# Altium footprint library PCB - SWITCHES - FP-PW0024A-IPC_C.PcbLib: 1 footprints
Each footprint in its own frame and in the unit in brackets; x right, y up, seen from the top. Pads: shape width x height; smd on the part's side, far side on the other; paste and mask are expansions set on the pad; w line width, h text height; cw(c..) or ccw(c..) is an arc to the next point about the centre after c.
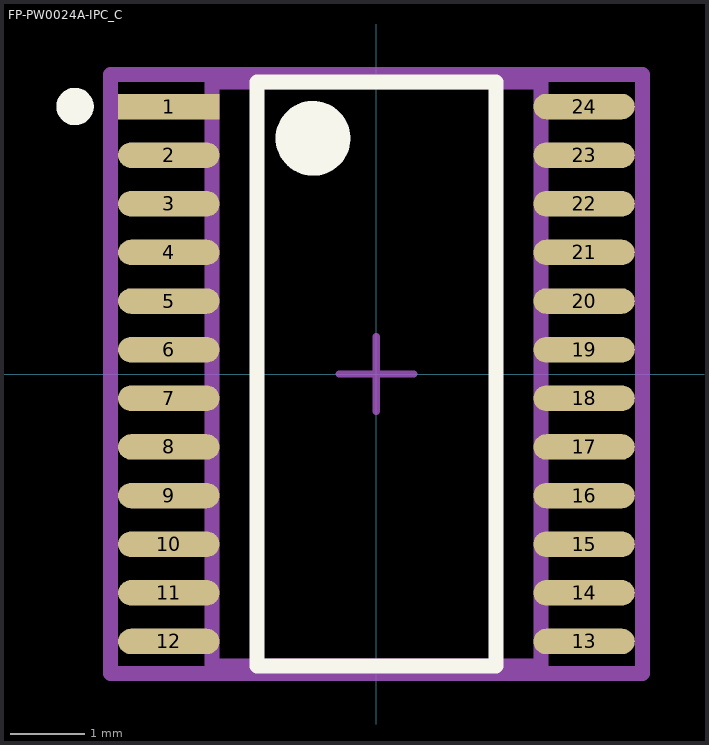
[diagram p0: the footprint, top view; thin cyan lines are the x and y axes]

## FP-PW0024A-IPC_C [mm]
pads (24):
  rect 1.355x0.341 smd paste+0 mask+0: 1(-2.775,3.575)
  rrect100% 1.355x0.341 smd paste+0 mask+0: 2(-2.775,2.925) 3(-2.775,2.275) 4(-2.775,1.625) 5(-2.775,0.975) 6(-2.775,0.325) 7(-2.775,-0.325) 8(-2.775,-0.975) 9(-2.775,-1.625) 10(-2.775,-2.275) 11(-2.775,-2.925) 12(-2.775,-3.575) 13(2.775,-3.575) 14(2.775,-2.925) 15(2.775,-2.275) 16(2.775,-1.625) 17(2.775,-0.975) 18(2.775,-0.325) 19(2.775,0.325) 20(2.775,0.975) 21(2.775,1.625) 22(2.775,2.275) 23(2.775,2.925) 24(2.775,3.575)
Top Overlay:
  circle w0.5: c-0.848,3.15 r0.25
  circle w0.25: c-4.028,3.575 r0.125
  lines w0.2: -1.598,-3.9 1.598,-3.9 1.598,3.9 -1.598,3.9 -1.598,-3.9
Top Assembly:
  lines w0.2: -2.2,-3.9 2.2,-3.9 2.2,3.9 -2.2,3.9 -2.2,-3.9
Top Courtyard:
  lines w0.2: -3.553,-4 3.553,-4 3.553,4 -3.553,4 -3.553,-4
Top Designator (Mech9):
  text ".Designator" at -2.159,4.379 h1
Top Component Center:
  lines w0.1: -0.5,0 0.5,0 ; 0,-0.5 0,0.5
3D body "IC_Texas_Instruments_TCA9548APWR_eec.STEP": height 0.25, standoff 0, extent -3.553,-4 3.553,4